# Altium schematic symbol library project_x_sch_library.SchLib: 37 symbols (part 2 of 2)
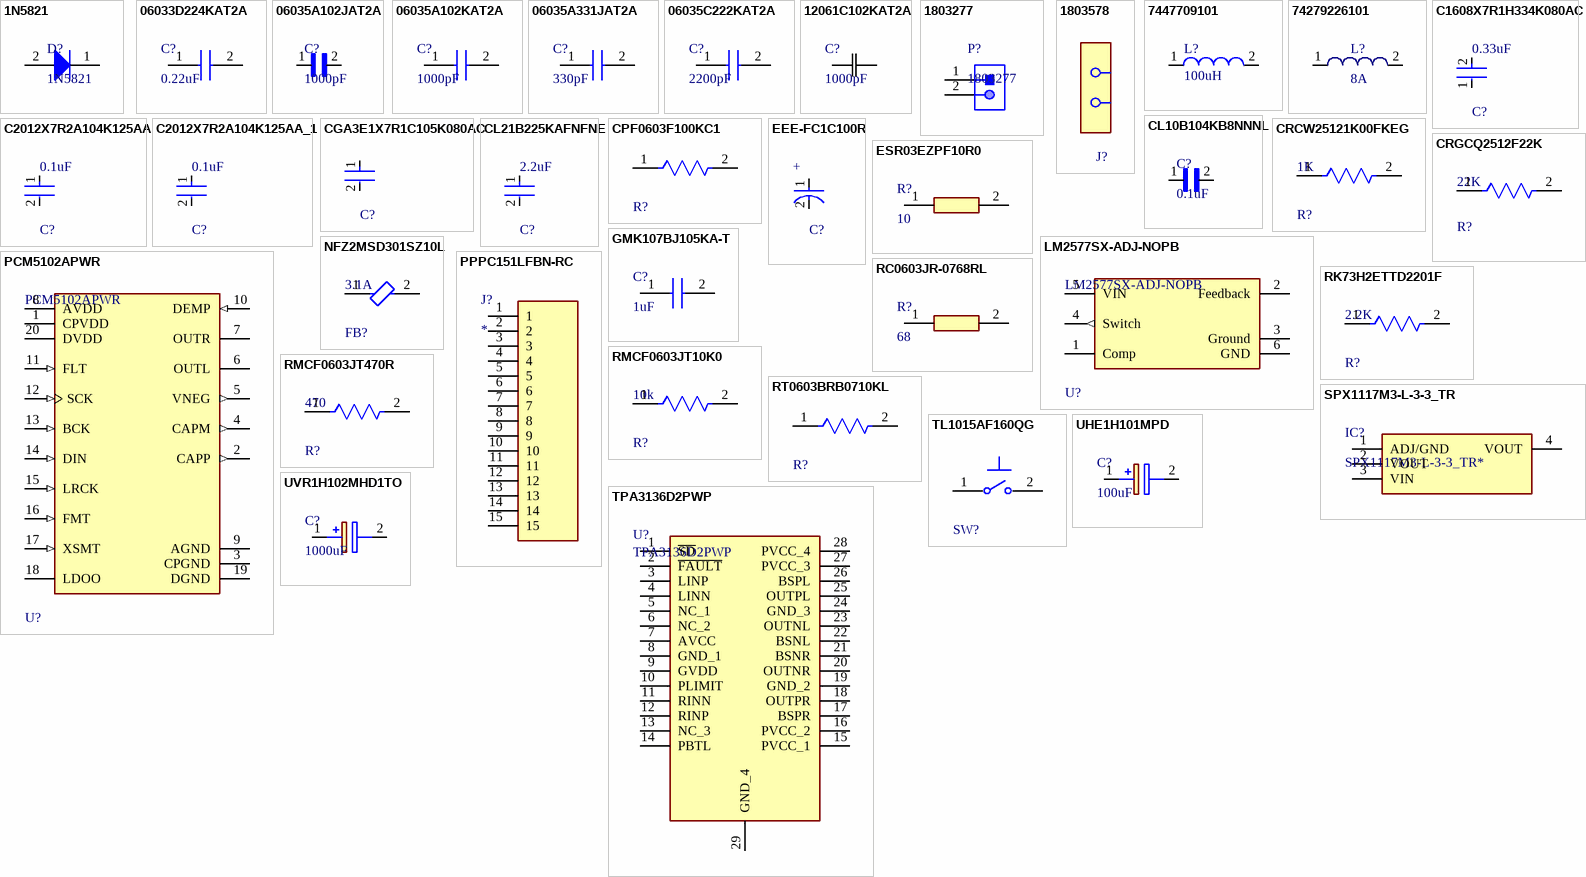
[diagram p1: symbols 1N5821 to UVR1H102MHD1TO]

## UHE1H101MPD
designator C?, comment 100uF
CAP ALUM 100UF 20% 50V RADIAL; Manufacturer_Name: Nichicon; Manufacturer_Part_Number: UHE1H101MPD; Datasheet Link: https://www.mouser.com/datasheet/2/293/e-uhe-1220676.pdf; Height: 13mm; Mouser Part Number: 647-UHE1H101MPD; Mouser Price/Stock: https://www.mouser.co.uk/ProductDetail/Nichicon/UHE1H101MPD?qs=oOyQ8mbwhO6kNSFA%252BBINjg%3D%3D; Arrow Part Number: UHE1H101MPD; Arrow Price/Stock: https://www.arrow.com/en/products/uhe1h101mpd/nichicon; Supplier 1: Digi-Key; Supplier Part Number 1: 493-1605-ND
footprint CAPPRD350W60D825H1300
pins: 1 +, 2 -

## UVR1H102MHD1TO
designator C?, comment 1000uF
CAP ALUM 1000UF 20% 50V RADIAL; Manufacturer_Name: Nichicon; Manufacturer_Part_Number: UVR1H102MHD1TO; Manufacturer: Kyocera AVX; Manufacturer Part Number: UVR1H102MHD; Capacitance: 1mF; Life (Hours): 2000Hour; Polarity: Polar; Datasheet Link: http://nichicon-us.com/english/products/pdfs/e-uvr.pdf; Height: 27mm; Mouser Part Number: 647-UVR1H102MHD1T0; Mouser Price/Stock: https://www.mouser.co.uk/ProductDetail/Nichicon/UVR1H102MHD1TO?qs=Wu4QelNNmeNg4t%252BBksLOmQ%3D%3D; Arrow Part Number: UVR1H102MHD1TO; Arrow Price/Stock: https://www.arrow.com/en/products/uvr1h102mhd1to/nichicon; Supplier 1: Digi-Key; RoHS: Yes; Stock 1: 1657; Pricing 1: 1=1.07000, 10=0.81600, 50=0.67820, 100=0.58390, 500=0.45208, 1000=0.38930, 2500=0.36418, 5000=0.34534 (USD); Mount: Through Hole,PCB; Case/Package: Radial; Min Operating Temperature: -40°C; Max Operating Temperature: 85°C; Tolerance: 20%; Voltage Rating (DC): 50V; Packaging: Bulk; Voltage Rating: 50V; Lead Pitch: 0.197inch; Height - Seated (Max): 1.063inch; ComponentLink1URL: http://nichicon-us.com/english/products/pdfs/e-mi_tape.pdf?src-supplier=Digi-Key; ComponentLink1Description: http://nichicon-us.com/english/products/pdfs/e-mi_tape.pdf?src-supplier=Digi-Key; Supplier Part Number 1: 493-1111-ND
footprint CAPPRD500W60D1275H2700
pins: 1 +, 2 -